# EAGLE library part 74HC595 (library matlock)
8-bit shift register
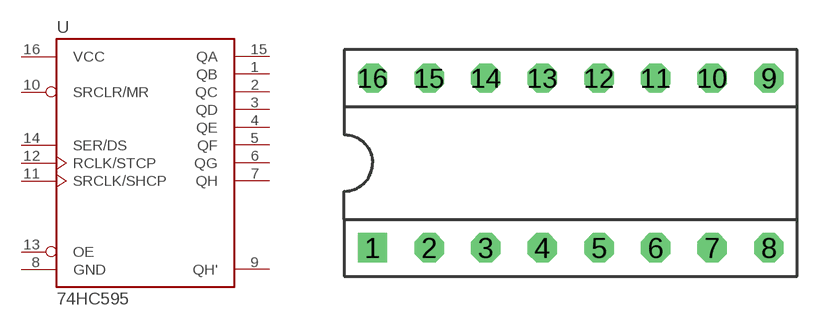
[diagram p2: symbol with the pads of DIP16; footprint DIP16]

Designator prefix U

## 74HC595N*  [DIP16]
1  QB
2  QC
3  QD
4  QE
5  QF
6  QG
7  QH
8  GND  pwr
9  QH'
10  SRCLR/MR
11  SRCLK/SHCP
12  RCLK/STCP
13  OE
14  SER/DS
15  QA
16  VCC  pwr

## Footprint DIP16 (pad centres in mm)
drill 0.813 square: 1 -8.89,-3.81
drill 0.813 octagon: 2 -6.35,-3.81; 3 -3.81,-3.81; 4 -1.27,-3.81; 5 1.27,-3.81; 6 3.81,-3.81; 7 6.35,-3.81; 8 8.89,-3.81; 9 8.89,3.81; 10 6.35,3.81; 11 3.81,3.81; 12 1.27,3.81; 13 -1.27,3.81; 14 -3.81,3.81; 15 -6.35,3.81; 16 -8.89,3.81